# Altium footprint library PCB - SWITCH - E-SWITCH TL3315.PcbLib: 1 footprints
Each footprint in its own frame and in the unit in brackets; x right, y up, seen from the top. Pads: shape width x height; smd on the part's side, far side on the other; paste and mask are expansions set on the pad; w line width, h text height; cw(c..) or ccw(c..) is an arc to the next point about the centre after c.
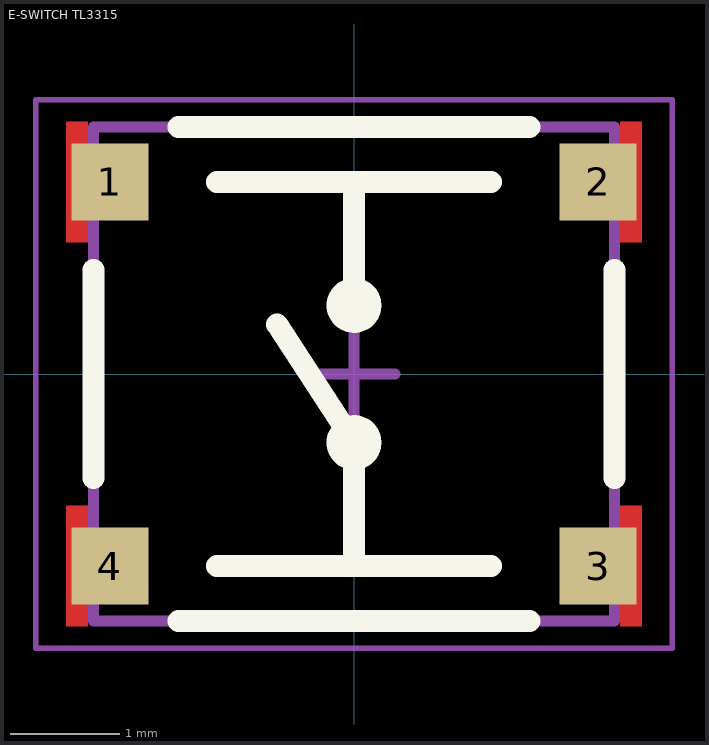
[diagram p0: the footprint, top view; thin cyan lines are the x and y axes]

## E-SWITCH TL3315 [mm] "SMT Switch, 4-leads, body 4.5x4.5mm, E-SWITCH TL3315NF100Q"
height 0.55
pads (4):
  rect 0.7x0.7 smd mask+0.1: 1(-2.225,1.75) 2(2.225,1.75) 3(2.225,-1.75) 4(-2.225,-1.75)
Top Layer:
  rectangle: -2.625,-2.3 -2.425,-1.2
  region: 2.625,-1.2 2.425,-1.2 2.425,-2.3 2.625,-2.3
  region: 2.625,2.3 2.425,2.3 2.425,1.2 2.625,1.2
  rectangle: -2.625,1.2 -2.425,2.3
  region: -2.575,-2.225
  region: 2.575,-2.225
  region: 2.575,2.225
  region: -2.575,2.225
Top Overlay:
  circle w0.2: c0,-0.625 r0.15
  circle w0.2: c0,0.625 r0.15
  lines w0.2: -2.375,-0.95 -2.375,0.95 ; -1.6,-2.25 1.6,-2.25 ; -1.6,2.25 1.6,2.25 ; -1.25,-1.75 1.25,-1.75 ; -1.25,1.75 1.25,1.75 ; -0.7,0.45 0,-0.625 0,-1.75 ; 0,0.625 0,1.75 ; 2.375,-0.95 2.375,0.95
Mechanical 13:
  lines w0.1: -2.375,-2.25 2.375,-2.25 2.375,2.25 -2.375,2.25 -2.375,-2.25
Mechanical 15 (Mech15):
  lines w0.05: -2.9,-2.5 2.9,-2.5 2.9,2.5 -2.9,2.5 -2.9,-2.5
  lines w0.1: -0.375,0 0.375,0 ; 0,-0.375 0,0.375
3D body "E-Switch - TL3315.step": height 0.55, standoff -0.05, extent -2.375,-2.25 2.375,2.25